# EAGLE library part LTC2952 (library kwoo)
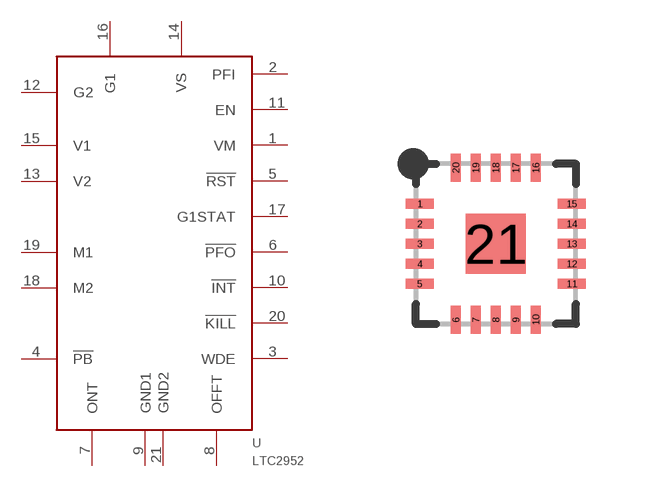
[diagram p2: symbol with the pads of 20-QFN; footprint 20-QFN]

Designator prefix -

## LTC2952  [20-QFN]
1  VM  in
2  PFI  in
3  WDE  in
4  !PB  in
5  !RST  in
6  !PFO  in
7  ONT  in
8  OFFT  in
9  GND1  in
10  !INT  in
11  EN  in
12  G2  in
13  V2  in
14  VS  in
15  V1  in
16  G1  in
17  G1STAT  in
18  M2  in
19  M1  in
20  !KILL  in
21  GND2  in

## Footprint 20-QFN (pad centres in mm)
smd 0.7 x 0.25: 1 -1.9,1; 2 -1.9,0.5; 3 -1.9,0; 4 -1.9,-0.5; 5 -1.9,-1; 11 1.9,-1; 12 1.9,-0.5; 13 1.9,0; 14 1.9,0.5; 15 1.9,1
smd 0.25 x 0.7: 6 -1,-1.9; 7 -0.5,-1.9; 8 0,-1.9; 9 0.5,-1.9; 10 1,-1.9; 16 1,1.9; 17 0.5,1.9; 18 0,1.9; 19 -0.5,1.9; 20 -1,1.9
smd 1.5 x 1.5: 21 0,0